# Altium schematic symbol library conn.SchLib: 1 symbol
Pins are listed as number, name and electrical type; pins without a type are passive.

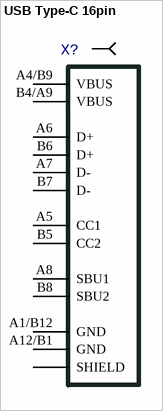
[diagram p0: symbol USB Type-C 16pin]

## USB Type-C 16pin
designator X?  (value not drawn)
pins: A1/B12 GND, A4/B9 VBUS, A5 CC1, A6 D+, A7 D-, A8 SBU1, A12/B1 GND, B4/A9 VBUS, B5 CC2, B6 D+, B7 D-, B8 SBU2, SHIELD